# Altium footprint library Con Mod Jack PCB.PcbLib: 213 footprints (part 7 of 14)
Each footprint in its own frame and in the unit in brackets; x right, y up, seen from the top. Pads: shape width x height; smd on the part's side, far side on the other; paste and mask are expansions set on the pad; w line width, h text height; cw(c..) or ccw(c..) is an arc to the next point about the centre after c.
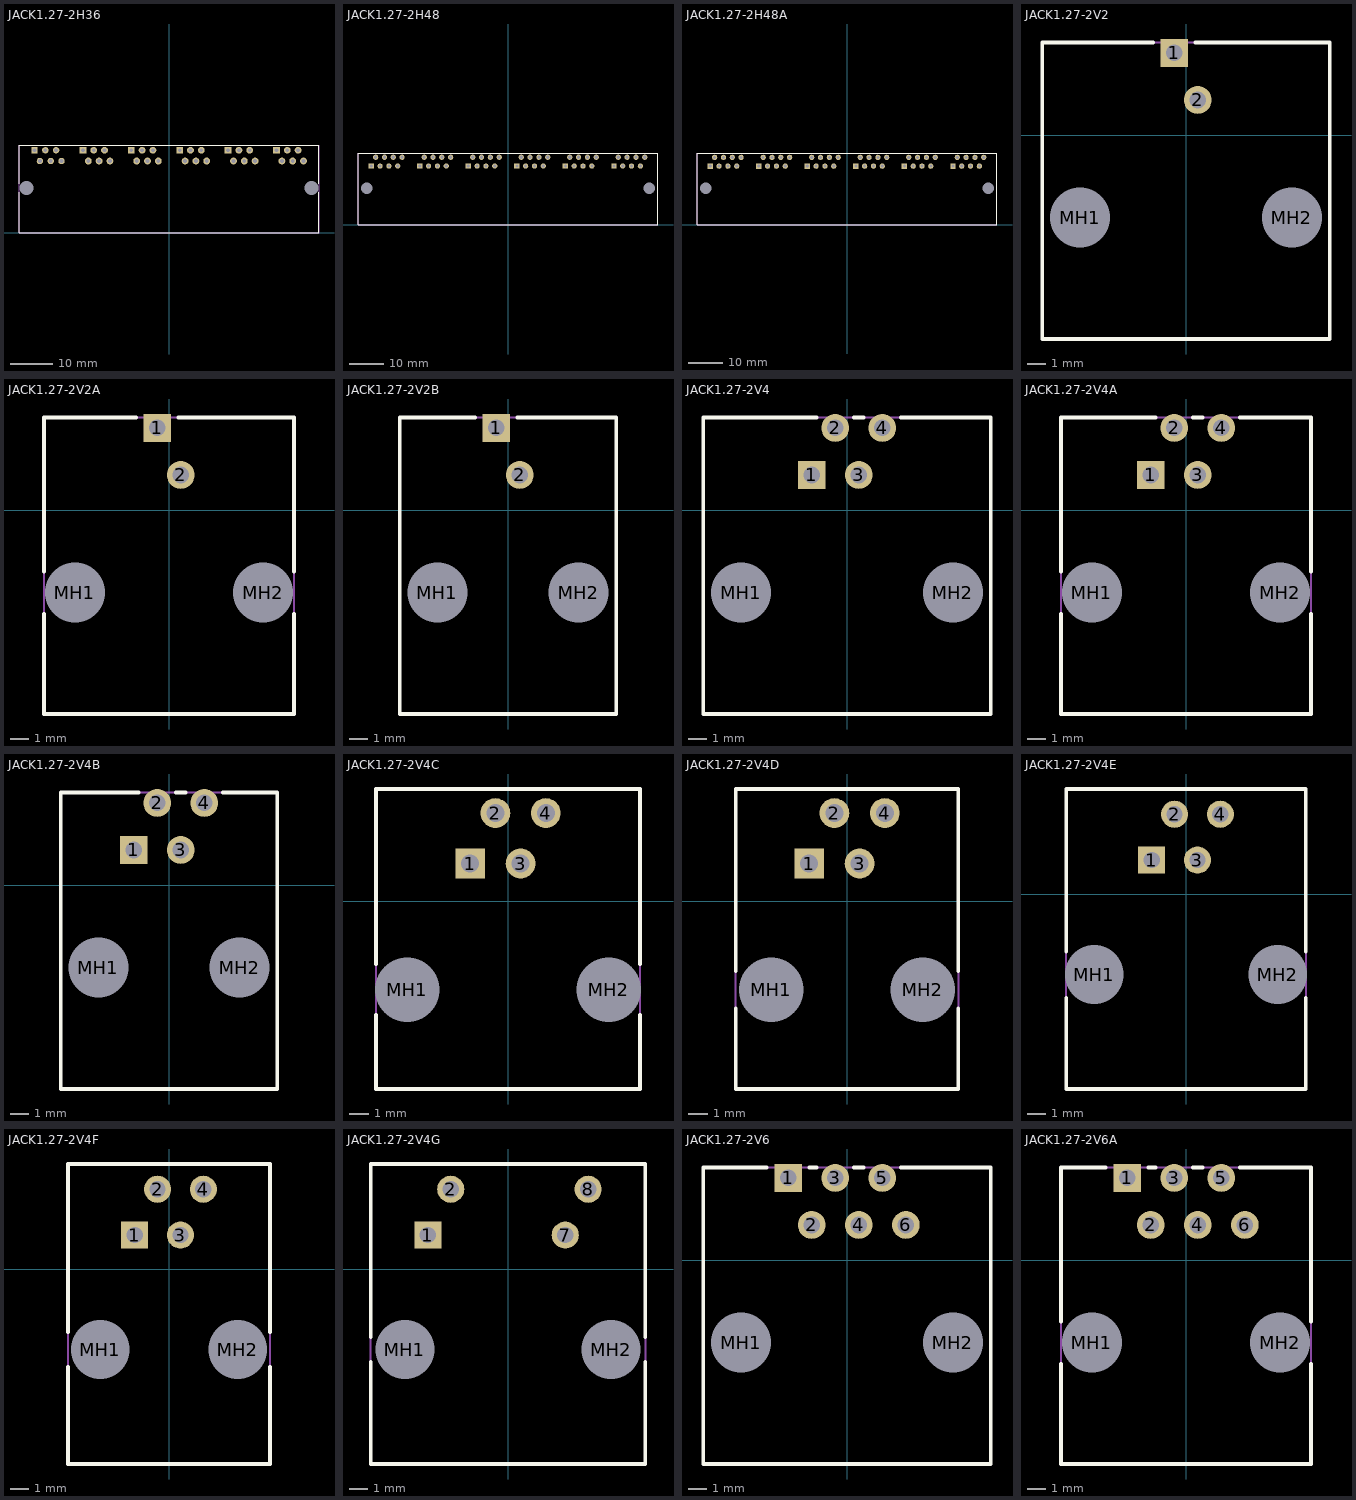
[diagram p6: the footprints below, top view; thin cyan lines are the x and y axes]

## JACK1.27-2H36 [mm] "Connector; PCB Jack, Thru-Hole; 6-Port, 6 Positions, 6 Loaded; Unshielded without Lightpipes; Right Angle"
height 12.83
pads (38):
  rect 1.5x1.5 hole 0.9: A1(-31.623,19.43)
  round 1.5 hole 0.9: A2(-30.353,16.89) A3(-29.083,19.43) A4(-27.813,16.89) A5(-26.543,19.43) A6(-25.273,16.89)
  rect 1.6x1.6 hole 0.9: B1(-20.244,19.43) C1(-8.865,19.43) D1(2.515,19.43) E1(13.894,19.43) F1(25.273,19.43)
  round 1.6 hole 0.9: B2(-18.974,16.89) B3(-17.704,19.43) B4(-16.434,16.89) B5(-15.164,19.43) B6(-13.894,16.89) C2(-7.595,16.89) C3(-6.325,19.43) C4(-5.055,16.89) C5(-3.785,19.43) C6(-2.515,16.89) D2(3.785,16.89) D3(5.055,19.43) D4(6.325,16.89) D5(7.595,19.43) D6(8.865,16.89) E2(15.164,16.89) E3(16.434,19.43) E4(17.704,16.89) E5(18.974,19.43) E6(20.244,16.89) F2(26.543,16.89) F3(27.813,19.43) F4(29.083,16.89) F5(30.353,19.43) F6(31.623,16.89)
  round 2.95 hole 3.25 unplated: MH1(-33.528,10.54) MH2(33.528,10.54)
Top Overlay:
  lines w0.2: -35.271,9.509 -35.271,0 35.269,0 ; -35.271,11.571 -35.271,20.63 35.269,20.63 ; 35.271,0 35.271,9.509 ; 35.271,11.571 35.271,20.63
Mechanical 13:
  lines w0.1: -35.271,0 -35.271,20.63 35.271,20.63 35.271,0 -35.271,0
3D body: height 12.83, standoff 0, extent -35.271,0 35.271,20.63

## JACK1.27-2H48 [mm] "Connector; PCB Jack, Thru-Hole; 6-Port, 8 Positions, 8 Loaded; Unshielded without Lightpipes; Right Angle"
height 12.83
pads (50):
  rect 1.5x1.5 hole 0.9: A1(-39.37,16.89) B1(-25.4,16.89) C1(-11.43,16.89) D1(2.54,16.89) E1(16.51,16.89) F1(30.48,16.89)
  round 1.5 hole 0.9: A2(-38.1,19.43) A3(-36.83,16.89) A4(-35.56,19.43) A5(-34.29,16.89) A6(-33.02,19.43) A7(-31.75,16.89) A8(-30.48,19.43) B2(-24.13,19.43) B3(-22.86,16.89) B4(-21.59,19.43) B5(-20.32,16.89) B6(-19.05,19.43) B7(-17.78,16.89) B8(-16.51,19.43) C2(-10.16,19.43) C3(-8.89,16.89) C4(-7.62,19.43) C5(-6.35,16.89) C6(-5.08,19.43) C7(-3.81,16.89) C8(-2.54,19.43) D2(3.81,19.43) D3(5.08,16.89) D4(6.35,19.43) D5(7.62,16.89) D6(8.89,19.43) D7(10.16,16.89) D8(11.43,19.43) E2(17.78,19.43) E3(19.05,16.89) E4(20.32,19.43) E5(21.59,16.89) E6(22.86,19.43) E7(24.13,16.89) E8(25.4,19.43) F2(31.75,19.43) F3(33.02,16.89) F4(34.29,19.43) F5(35.56,16.89) F6(36.83,19.43) F7(38.1,16.89) F8(39.37,19.43)
  round 2.95 hole 3.25 unplated: MH1(-40.64,10.54) MH2(40.64,10.54)
Top Overlay:
  lines w0.2: -43.18,0 -43.18,20.57 43.18,20.57 43.18,0 -43.18,0
Mechanical 13:
  lines w0.1: -43.18,0 -43.18,20.57 43.18,20.57 43.18,0 -43.18,0
3D body: height 12.83, standoff 0, extent -43.18,0 43.18,20.57

## JACK1.27-2H48A [mm] "Connector; PCB Jack, Thru-Hole; 6-Port, 8 Positions, 8 Loaded; Unshielded without Lightpipes; Right Angle"
height 12.83
pads (50):
  rect 1.5x1.5 hole 0.9: A1(-39.37,16.89) B1(-25.4,16.89) C1(-11.43,16.89) D1(2.54,16.89) E1(16.51,16.89) F1(30.48,16.89)
  round 1.5 hole 0.9: A2(-38.1,19.43) A3(-36.83,16.89) A4(-35.56,19.43) A5(-34.29,16.89) A6(-33.02,19.43) A7(-31.75,16.89) A8(-30.48,19.43) B2(-24.13,19.43) B3(-22.86,16.89) B4(-21.59,19.43) B5(-20.32,16.89) B6(-19.05,19.43) B7(-17.78,16.89) B8(-16.51,19.43) C2(-10.16,19.43) C3(-8.89,16.89) C4(-7.62,19.43) C5(-6.35,16.89) C6(-5.08,19.43) C7(-3.81,16.89) C8(-2.54,19.43) D2(3.81,19.43) D3(5.08,16.89) D4(6.35,19.43) D5(7.62,16.89) D6(8.89,19.43) D7(10.16,16.89) D8(11.43,19.43) E2(17.78,19.43) E3(19.05,16.89) E4(20.32,19.43) E5(21.59,16.89) E6(22.86,19.43) E7(24.13,16.89) E8(25.4,19.43) F2(31.75,19.43) F3(33.02,16.89) F4(34.29,19.43) F5(35.56,16.89) F6(36.83,19.43) F7(38.1,16.89) F8(39.37,19.43)
  round 2.95 hole 3.25 unplated: MH1(-40.64,10.54) MH2(40.64,10.54)
Top Overlay:
  lines w0.2: -43.18,0 43.18,0 43.18,20.63 -43.18,20.63 -43.18,0
Mechanical 13:
  lines w0.1: -43.18,0 -43.18,20.63 43.18,20.63 43.18,0 -43.18,0
3D body: height 12.83, standoff 0, extent -43.18,0 43.18,20.63

## JACK1.27-2V2 [mm] "Connector; PCB Jack, Thru-Hole; 1-Port, 8 Positions, 2 Loaded; Unshielded without Lightpipes; Vertical"
height 16.38
pads (4):
  rect 1.5x1.5 hole 0.9: 1(-0.635,4.445)
  round 1.5 hole 0.9: 2(0.635,1.905)
  round 2.95 hole 3.25 unplated: MH1(-5.715,-4.445) MH2(5.715,-4.445)
Top Overlay:
  lines w0.2: -1.785,5.005 -7.75,5.005 -7.75,-10.995 7.75,-10.995 7.75,5.005 0.515,5.005
Mechanical 13:
  lines w0.1: -7.75,-10.995 -7.75,5.005 7.75,5.005 7.75,-10.995 -7.75,-10.995
3D body: height 16.38, standoff 0, extent -7.75,-10.995 7.75,5.005

## JACK1.27-2V2A [mm] "Connector; PCB Jack, Thru-Hole; 1-Port, 6 Positions, 2 Loaded; Unshielded without Lightpipes; Vertical"
height 16.38
pads (4):
  rect 1.5x1.5 hole 0.9: 1(-0.635,4.445)
  round 1.5 hole 0.9: 2(0.635,1.905)
  round 2.95 hole 3.25 unplated: MH1(-5.08,-4.445) MH2(5.08,-4.445)
Top Overlay:
  lines w0.2: -6.75,-5.59 -6.75,-10.995 6.75,-10.995 6.75,-5.59 ; -6.75,-3.3 -6.75,5.005 -1.785,5.005 ; 0.515,5.005 6.75,5.005 6.75,-3.3
Mechanical 13:
  lines w0.1: -6.75,-10.995 -6.75,5.005 6.75,5.005 6.75,-10.995 -6.75,-10.995
3D body: height 16.38, standoff 0, extent -6.75,-10.995 6.75,5.005

## JACK1.27-2V2B [mm] "Connector; PCB Jack, Thru-Hole; 1-Port, 4 Positions, 2 Loaded; Unshielded without Lightpipes; Vertical"
height 12.7
pads (4):
  rect 1.5x1.5 hole 0.9: 1(-0.635,4.445)
  round 1.5 hole 0.9: 2(0.635,1.905)
  round 2.95 hole 3.25 unplated: MH1(-3.81,-4.445) MH2(3.81,-4.445)
Top Overlay:
  lines w0.2: -1.785,5.005 -5.835,5.005 -5.835,-10.995 5.835,-10.995 5.835,5.005 0.515,5.005
Mechanical 13:
  lines w0.1: -5.835,-10.995 -5.835,5.005 5.835,5.005 5.835,-10.995 -5.835,-10.995
3D body: height 12.7, standoff 0, extent -5.835,-10.995 5.835,5.005

## JACK1.27-2V4 [mm] "Connector; PCB Jack, Thru-Hole; 1-Port, 8 Positions, 4 Loaded; Unshielded without Lightpipes; Vertical"
height 16.38
pads (6):
  rect 1.5x1.5 hole 0.9: 1(-1.905,1.905)
  round 1.5 hole 0.9: 2(-0.635,4.445) 3(0.635,1.905) 4(1.905,4.445)
  round 2.95 hole 3.25 unplated: MH1(-5.715,-4.445) MH2(5.715,-4.445)
Top Overlay:
  lines w0.2: -1.639,5.005 -7.75,5.005 -7.75,-10.995 7.75,-10.995 7.75,5.005 2.909,5.005 ; 0.369,5.005 0.901,5.005
Mechanical 13:
  lines w0.1: -7.75,-10.995 -7.75,5.005 7.75,5.005 7.75,-10.995 -7.75,-10.995
3D body: height 16.38, standoff 0, extent -7.75,-10.995 7.75,5.005

## JACK1.27-2V4A [mm] "Connector; PCB Jack, Thru-Hole; 1-Port, 6 Positions, 4 Loaded; Unshielded without Lightpipes; Vertical"
height 16.38
pads (6):
  rect 1.5x1.5 hole 0.9: 1(-1.905,1.905)
  round 1.5 hole 0.9: 2(-0.635,4.445) 3(0.635,1.905) 4(1.905,4.445)
  round 2.95 hole 3.25 unplated: MH1(-5.08,-4.445) MH2(5.08,-4.445)
Top Overlay:
  lines w0.2: -6.75,-5.59 -6.75,-10.995 6.75,-10.995 6.75,-5.59 ; -6.75,-3.3 -6.75,5.005 -1.639,5.005 ; 0.369,5.005 0.901,5.005 ; 2.909,5.005 6.75,5.005 6.75,-3.3
Mechanical 13:
  lines w0.1: -6.75,-10.995 -6.75,5.005 6.75,5.005 6.75,-10.995 -6.75,-10.995
3D body: height 16.38, standoff 0, extent -6.75,-10.995 6.75,5.005

## JACK1.27-2V4B [mm] "Connector; PCB Jack, Thru-Hole; 1-Port, 4 Positions, 4 Loaded; Unshielded without Lightpipes; Vertical"
height 12.7
pads (6):
  rect 1.5x1.5 hole 0.9: 1(-1.905,1.905)
  round 1.5 hole 0.9: 2(-0.635,4.445) 3(0.635,1.905) 4(1.905,4.445)
  round 2.95 hole 3.25 unplated: MH1(-3.81,-4.445) MH2(3.81,-4.445)
Top Overlay:
  lines w0.2: -1.639,5.005 -5.835,5.005 -5.835,-10.995 5.835,-10.995 5.835,5.005 2.909,5.005 ; 0.369,5.005 0.901,5.005
Mechanical 13:
  lines w0.1: -5.835,-10.995 -5.835,5.005 5.835,5.005 5.835,-10.995 -5.835,-10.995
3D body: height 12.7, standoff 0, extent -5.835,-10.995 5.835,5.005

## JACK1.27-2V4C [mm] "Connector; PCB Jack, Thru-Hole; 1-Port, 6 Positions, 4 Loaded; Unshielded without Lightpipes; Vertical"
height 15.7
pads (6):
  rect 1.5x1.5 hole 0.9: 1(-1.905,1.905)
  round 1.5 hole 0.9: 2(-0.635,4.445) 3(0.635,1.905) 4(1.905,4.445)
  round 2.95 hole 3.25 unplated: MH1(-5.08,-4.445) MH2(5.08,-4.445)
Top Overlay:
  lines w0.2: -6.65,-5.724 -6.65,-9.445 6.65,-9.445 6.65,-5.724 ; -6.65,-3.166 -6.65,5.655 6.65,5.655 6.65,-3.166
Mechanical 13:
  lines w0.1: -6.65,-9.445 -6.65,5.655 6.65,5.655 6.65,-9.445 -6.65,-9.445
3D body: height 15.7, standoff 0, extent -6.65,-9.445 6.65,5.655

## JACK1.27-2V4D [mm] "Connector; PCB Jack, Thru-Hole; 1-Port, 4 Positions, 4 Loaded; Unshielded without Lightpipes; Vertical"
height 15.7
pads (6):
  rect 1.5x1.5 hole 0.9: 1(-1.905,1.905)
  round 1.5 hole 0.9: 2(-0.635,4.445) 3(0.635,1.905) 4(1.905,4.445)
  round 2.95 hole 3.25 unplated: MH1(-3.81,-4.445) MH2(3.81,-4.445)
Top Overlay:
  lines w0.2: -5.6,-5.392 -5.6,-9.445 5.6,-9.445 5.6,-5.392 ; -5.6,-3.498 -5.6,5.655 5.6,5.655 5.6,-3.498
Mechanical 13:
  lines w0.1: -5.6,-9.445 -5.6,5.655 5.6,5.655 5.6,-9.445 -5.6,-9.445
3D body: height 15.7, standoff 0, extent -5.6,-9.445 5.6,5.655

## JACK1.27-2V4E [mm] "Connector; PCB Jack, Thru-Hole; 1-Port, 6 Positions, 4 Loaded; Unshielded without Lightpipes; Vertical"
height 16.25
pads (6):
  rect 1.5x1.5 hole 0.9: 1(-1.905,1.905)
  round 1.5 hole 0.9: 2(-0.635,4.445) 3(0.635,1.905) 4(1.905,4.445)
  round 2.95 hole 3.25 unplated: MH1(-5.08,-4.445) MH2(5.08,-4.445)
Top Overlay:
  lines w0.2: -6.65,-5.724 -6.65,-10.795 6.65,-10.795 6.65,-5.724 ; -6.65,-3.166 -6.65,5.845 6.65,5.845 6.65,-3.166
Mechanical 13:
  lines w0.1: -6.65,-10.795 -6.65,5.845 6.65,5.845 6.65,-10.795 -6.65,-10.795
3D body: height 16.25, standoff 0, extent -6.65,-10.795 6.65,5.845

## JACK1.27-2V4F [mm] "Connector; PCB Jack, Thru-Hole; 1-Port, 4 Positions, 4 Loaded; Unshielded without Lightpipes; Vertical"
height 16.25
pads (6):
  rect 1.5x1.5 hole 0.9: 1(-1.905,1.905)
  round 1.5 hole 0.9: 2(-0.635,4.445) 3(0.635,1.905) 4(1.905,4.445)
  round 2.95 hole 3.25 unplated: MH1(-3.81,-4.445) MH2(3.81,-4.445)
Top Overlay:
  lines w0.2: -5.6,-5.392 -5.6,-10.795 5.6,-10.795 5.6,-5.392 ; -5.6,-3.498 -5.6,5.845 5.6,5.845 5.6,-3.498
Mechanical 13:
  lines w0.1: -5.6,-10.795 -5.6,5.845 5.6,5.845 5.6,-10.795 -5.6,-10.795
3D body: height 16.25, standoff 0, extent -5.6,-10.795 5.6,5.845

## JACK1.27-2V4G [mm] "Connector; PCB Jack, Thru-Hole; 1-Port, 8 Positions, 4 Loaded; Unshielded without Lightpipes; Vertical"
height 16.25
pads (6):
  rect 1.5x1.5 hole 0.9: 1(-4.445,1.905)
  round 1.5 hole 0.9: 2(-3.175,4.445) 7(3.175,1.905) 8(4.445,4.445)
  round 2.95 hole 3.25 unplated: MH1(-5.715,-4.445) MH2(5.715,-4.445)
Top Overlay:
  lines w0.2: -7.62,-5.132 -7.62,-10.795 7.62,-10.795 7.62,-5.132 ; -7.62,-3.758 -7.62,5.845 7.62,5.845 7.62,-3.758
Mechanical 13:
  lines w0.1: -7.62,-10.795 -7.62,5.845 7.62,5.845 7.62,-10.795 -7.62,-10.795
3D body: height 16.25, standoff 0, extent -7.62,-10.795 7.62,5.845

## JACK1.27-2V6 [mm] "Connector; PCB Jack, Thru-Hole; 1-Port, 8 Positions, 6 Loaded; Unshielded without Lightpipes; Vertical"
height 16.38
pads (8):
  rect 1.5x1.5 hole 0.9: 1(-3.175,4.445)
  round 1.5 hole 0.9: 2(-1.905,1.905) 3(-0.635,4.445) 4(0.635,1.905) 5(1.905,4.445) 6(3.175,1.905)
  round 2.95 hole 3.25 unplated: MH1(-5.715,-4.445) MH2(5.715,-4.445)
Top Overlay:
  lines w0.2: -4.325,5.005 -7.75,5.005 -7.75,-10.995 7.75,-10.995 7.75,5.005 2.909,5.005 ; -2.025,5.005 -1.639,5.005 ; 0.369,5.005 0.901,5.005
Mechanical 13:
  lines w0.1: -7.75,-10.995 -7.75,5.005 7.75,5.005 7.75,-10.995 -7.75,-10.995
3D body: height 16.38, standoff 0, extent -7.75,-10.995 7.75,5.005

## JACK1.27-2V6A [mm] "Connector; PCB Jack, Thru-Hole; 1-Port, 6 Positions, 6 Loaded; Unshielded without Lightpipes; Vertical"
height 16.38
pads (8):
  rect 1.5x1.5 hole 0.9: 1(-3.175,4.445)
  round 1.5 hole 0.9: 2(-1.905,1.905) 3(-0.635,4.445) 4(0.635,1.905) 5(1.905,4.445) 6(3.175,1.905)
  round 2.95 hole 3.25 unplated: MH1(-5.08,-4.445) MH2(5.08,-4.445)
Top Overlay:
  lines w0.2: -6.75,-5.59 -6.75,-10.995 6.75,-10.995 6.75,-5.59 ; -6.75,-3.3 -6.75,5.005 -4.325,5.005 ; -2.025,5.005 -1.639,5.005 ; 0.369,5.005 0.901,5.005 ; 2.909,5.005 6.75,5.005 6.75,-3.3
Mechanical 13:
  lines w0.1: -6.75,-10.995 -6.75,5.005 6.75,5.005 6.75,-10.995 -6.75,-10.995
3D body: height 16.38, standoff 0, extent -6.75,-10.995 6.75,5.005